# EAGLE library part SWD_SHROUD (library dtb)
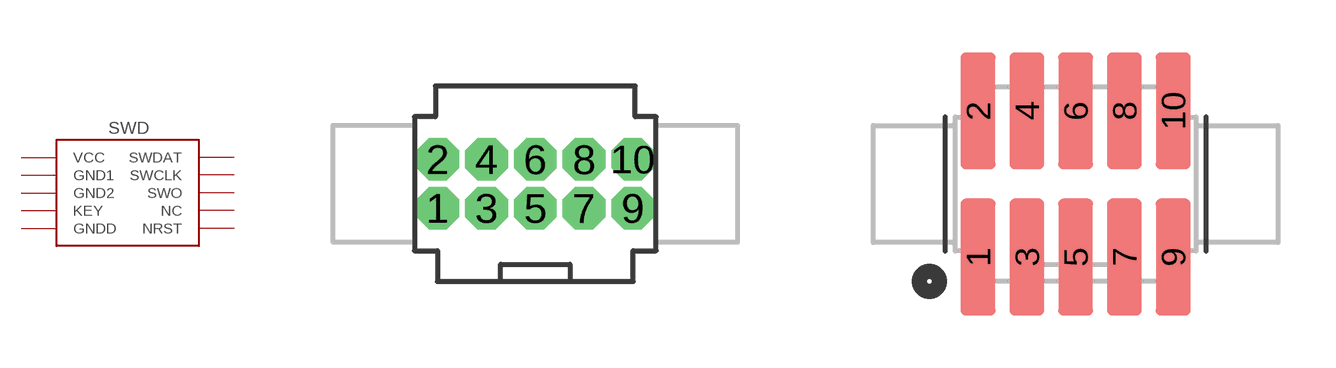
[diagram p12: symbol with the pads of SWD_PTH_SHROUD; footprints SWD_PTH_SHROUD, SWD_SMD_SHROUD]

Designator prefix J

## SWD_SHROUD  [SWD_PTH_SHROUD]
1  VCC  pwr
2  SWDAT
3  GND1  pwr
4  SWCLK
5  GND2  pwr
6  SWO
7  KEY
8  NC  nc
9  GNDD  pwr
10  NRST

## SWD_SHROUD_SMD  [SWD_SMD_SHROUD]
Pads as for SWD_PTH_SHROUD

## Footprint SWD_PTH_SHROUD (pad centres in mm)
drill 0.6 octagon: 1 -2.54,-0.635; 2 -2.54,0.635; 3 -1.27,-0.635; 4 -1.27,0.635; 5 0,-0.635; 6 0,0.635; 7 1.27,-0.635; 8 1.27,0.635; 9 2.54,-0.635; 10 2.54,0.635

## Footprint SWD_SMD_SHROUD (pad centres in mm)
smd 0.914 x 3.048: 1 -2.54,-1.905; 2 -2.54,1.905; 3 -1.27,-1.905; 4 -1.27,1.905; 5 0,-1.905; 6 0,1.905; 7 1.27,-1.905; 8 1.27,1.905; 9 2.54,-1.905; 10 2.54,1.905